# EAGLE library part 53261-1071 (library SamacSys_Parts)
10 way SMT r/a header Molex PICOBLADE Series, Series Number 53261, 1.25mm Pitch 10 Way 1 Row Shrouded Right Angle PCB Header, Surface Mount Source: Datasheet <https://www.molex.com/webdocs/datasheets/pdf/en-us/0532611071_PCB_HEADERS.pdf>
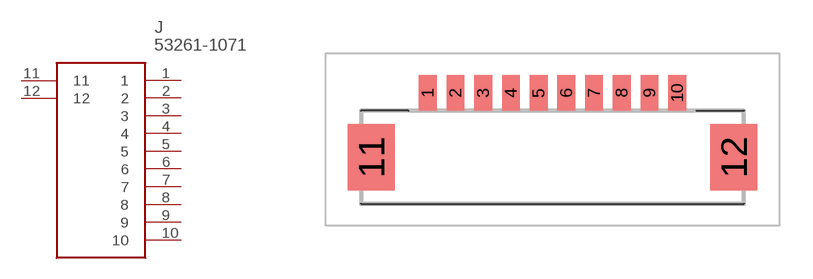
[diagram p0: symbol with the pads of 532611071; footprint 532611071]

Designator prefix J

## 53261-1071 (Description: 10 way SMT r/a header Molex PICOBLADE Series, Series Number 53261, 1.25mm Pitch 10 Way 1 Row Shrouded Right Angle PCB Header, Surface Mount; Height: 3mm; Manufacturer_Name: Molex; Manufacturer_Part_Number: 53261-1071; Mouser_Part_Number: 538-53261-1071; Mouser_Price-Stock: https://www.mouser.co.uk/ProductDetail/Molex/53261-1071?qs=%252B72YyncTwW%252Bzs3RwZTiukQ%3D%3D)  [532611071]
1  1
2  2
3  3
4  4
5  5
6  6
7  7
8  8
9  9
10  10
11  11
12  12

## Footprint 532611071 (pad centres in mm)
53261-1071
smd 0.8 x 1.6: 1 -5.625,2.1; 2 -4.375,2.1; 3 -3.125,2.1; 4 -1.875,2.1; 5 -0.625,2.1; 6 0.625,2.1; 7 1.875,2.1; 8 3.125,2.1; 9 4.375,2.1; 10 5.625,2.1
smd 2.1 x 3: 11 -8.175,-0.8; 12 8.175,-0.8